# EAGLE library part MCP4018T-103E/LT (library MCP4018T)
IC, 7-Bit Single I2C Digital POT with Volatile Memory in SC-70-6
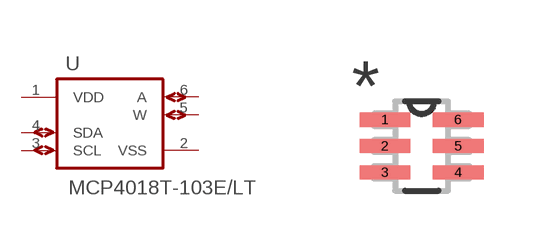
[diagram p0: symbol with the pads of SOT65P210X110-6N; footprint SOT65P210X110-6N]

Designator prefix U

## MCP4018T-103E/LT (MPN: MCP4018T-103E/LT; OC_FARNELL: 1715849; OC_NEWARK: 25R4726; PACKAGE: SC-70-6; SUPPLIER: Microchip)  [SOT65P210X110-6N]
1  VDD  pwr
2  VSS  pwr
3  SCL
4  SDA
5  W
6  A

## Footprint SOT65P210X110-6N (pad centres in mm)
smd 1.27 x 0.356: 1 -0.914,0.66; 2 -0.914,0; 3 -0.914,-0.66; 4 0.914,-0.66; 5 0.914,0; 6 0.914,0.66